# Altium schematic symbol library PCB_Project.SCHLIB: 15 symbols
Pins are listed as number, name and electrical type; pins without a type are passive.

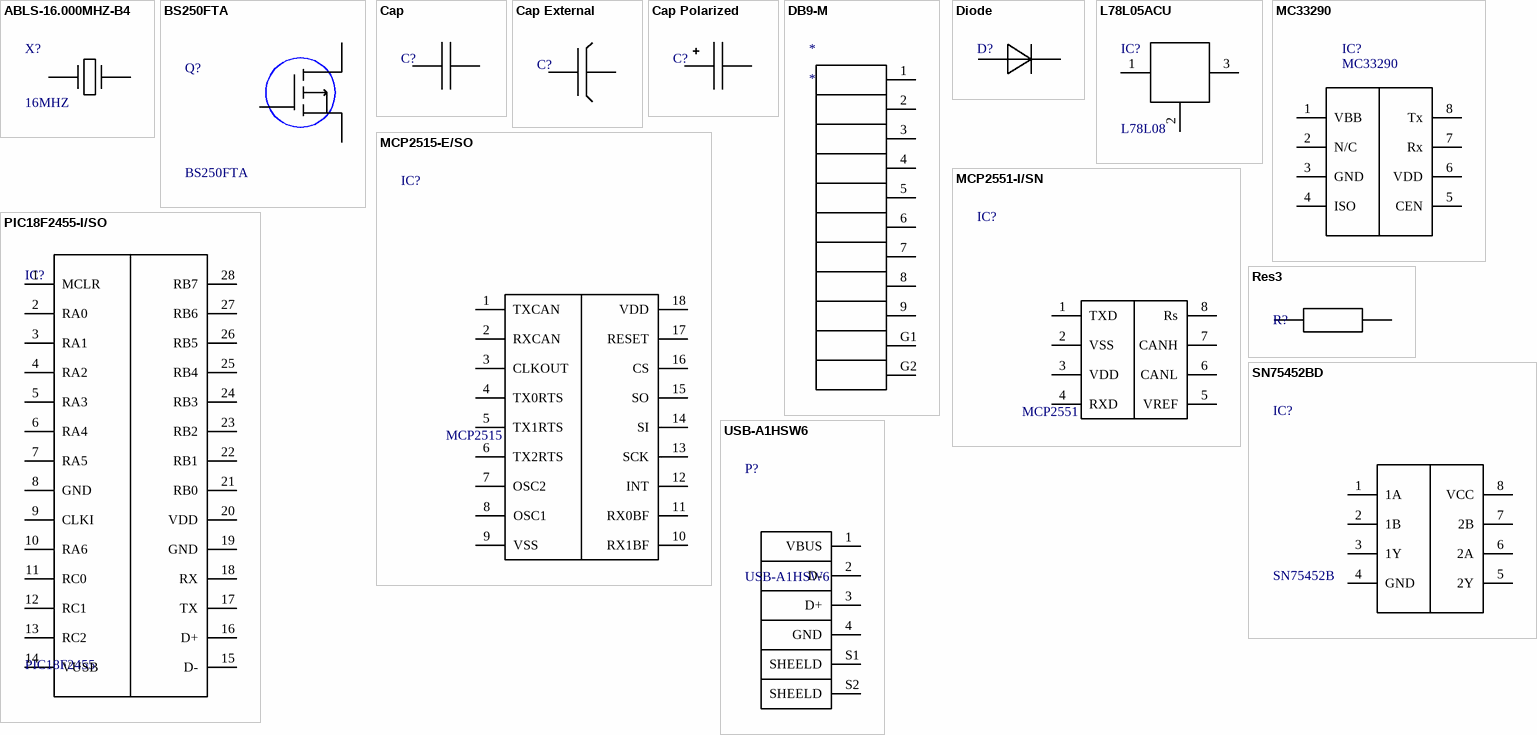
[diagram p0: symbols ABLS-16.000MHZ-B4 to USB-A1HSW6]

## ABLS-16.000MHZ-B4
designator X?, comment 16MHZ
16 MHz Â±30ppm Crystal 18pF 40 Ohms HC-49/US; MP: ABLS-16.000MHZ-B4; MF: Abracon; Check_prices: https://www.snapeda.com/parts/ABLS-16.000MHZ-B4/Abracon/view-part/?ref=eda; Availability: In Stock; SnapEDA_Link: https://www.snapeda.com/parts/ABLS-16.000MHZ-B4/Abracon/view-part/?ref=snap; Value: *; Price: None; Package: HC-49/US Abracon LLC; Purchase-URL: https://pricing.snapeda.com/search/part/ABLS-16.000MHZ-B4/?ref=eda
footprint X-16.000MHZ-B4
pins: 1, 2

## BS250FTA
designator Q?
P-Channel 45V 90mA (Ta) 330mW (Ta) Surface Mount SOT-23-3; MF: Diodes Inc.; DigiKey-Purchase-URL: https://snapeda.com/shop?store=DigiKey&id=699; SnapEDA_Link: https://www.snapeda.com/parts/BS250FTA/Diodes%20Inc./view-part/699/?ref=snap; Availability: Unavailable; Value: *; Price: None; MP: BS250FTA; Package: SOT-23-3 Diodes Inc.
footprint BS250
pins: 1 G, 2 S, 3 D

## Cap
designator C?  (value not drawn)
Capacitor; Published: 8-Jun-2000; LatestRevisionDate: 29-May-2009; LatestRevisionNote: IPC-7351 Footprint Added.; PackageReference: C0805; Publisher: Altium Limited; PackageDescription: Chip Capacitor
footprint C0805 (Chip Capacitor, Body 2.0x1.3mm, IPC High Density)
pins: 1, 2
1 alternate drawing of the same symbol

## Cap External
designator С?, comment Cap  (value not drawn)
Capacitor with a designated external electrode; Published: 8-Jun-2000; LatestRevisionDate: 29-May-2009; LatestRevisionNote: IPC-7351 Footprint Added.; PackageReference: C0805; Publisher: Altium Limited; PackageDescription: Chip Capacitor
footprint C0805 (Chip Capacitor, Body 2.0x1.3mm, IPC High Density)
pins: 1, 2
1 alternate drawing of the same symbol

## Cap Polarized
designator С?, comment Cap  (value not drawn)
Capacitor Polarized; Published: 8-Jun-2000; LatestRevisionDate: 29-May-2009; LatestRevisionNote: IPC-7351 Footprint Added.; PackageReference: C0805; Publisher: Altium Limited; PackageDescription: Chip Capacitor
footprint C0805 (Chip Capacitor, Body 2.0x1.3mm, IPC High Density)
pins: 1, 2
1 alternate drawing of the same symbol

## DB9-M
designator *
footprint DB9
pins: 1, 2, 3, 4, 5, 6, 7, 8, 9, G1, G2

## Diode
designator D?  (value not drawn)
Default Diode; Published: 8-Jun-2000; LatestRevisionDate: 17-Jul-2002; LatestRevisionNote: Re-released for DXP Platform.; PackageVersion: Sep-1996; PackageReference: SMC; Publisher: Altium Limited; PackageDescription: DO-214-AB/SMC; 2 C-Bend Leads; Body 7.9 x 5.9 mm, inc. leads (LxW); Code_JEDEC: DO-214-AB
footprint 1N4148
pins: 1, 2

## L78L05ACU
designator IC?, comment L78L08
Linear Voltage Regulator IC 1 Output 100mA SOT-89-3; MF: STMicroelectronics; MP: L78L05ACU; Availability: Unavailable; Price: None; Package: SOT-89-3 STMicroelectronics; Value: *; SnapEDA_Link: https://www.snapeda.com/parts/L78L05ACU/STMicroelectronics/view-part/1236826/?ref=snap
footprint L78L08
pins: 1 OUT (power), 2 GND (power), 3 IN (power)

## MC33290
designator IC?
Heat Sink; Packages Cooled:TO-220; Thermal Resistance:8.8Â°C/W; Width:34.5mm; Height:50mm; Length:12.5mm; Mounting Type:PC Board Thru Hole; Package / Case:TO-220 ;RoHS Compliant: Yes; MF: NXP USA; Check_prices: https://www.snapeda.com/parts/MC33290/NXP+USA+Inc./view-part/?ref=eda; Package: TO-220-3 ON Semiconductor; MP: MC33290; Value: *; SnapEDA_Link: https://www.snapeda.com/parts/MC33290/NXP+USA+Inc./view-part/?ref=snap; Availability: In Stock; Price: None
footprint SO08
pins: 1 VBB, 2 N/C, 3 GND (power), 4 ISO, 5 CEN, 6 VDD (power), 7 Rx, 8 Tx

## MCP2515-E/SO
designator IC?, comment MCP2515
CANbus Controller CAN 2.0 SPI Interface 18-SOIC; MP: MCP2515-E/SO; MF: Microchip; Price: None; Package: SOIC-18 Microchip; Availability: Unavailable; SnapEDA_Link: https://www.snapeda.com/parts/MCP2515-E/SO/Microchip/view-part/100602/?ref=snap; Value: *
footprint MCP2515
pins: 1 TXCAN, 2 RXCAN, 3 CLKOUT, 4 TX0RTS, 5 TX1RTS, 6 TX2RTS, 7 OSC2, 8 OSC1 (power), 9 VSS (power), 10 RX1BF, 11 RX0BF, 12 INT, 13 SCK, 14 SI, 15 SO, 16 CS, 17 RESET, 18 VDD

## MCP2551-I/SN
designator IC?, comment MCP2551
MP: MCP2551-I/SN; Package: None; Price: None; Availability: Unavailable; Value: *
footprint SOIC127P599X175-8N
pins: 1 TXD, 2 VSS (power), 3 VDD (power), 4 RXD, 5 VREF, 6 CANL, 7 CANH, 8 Rs

## PIC18F2455-I/SO
designator IC?, comment PIC18F2455
High Performance, Enhanced Flash, USB Microcontroller with nanoWatt Technology, 24K Flash, 28-Pin SOIC, Industrial Temperature Range; Published: 29-Jan-2009; LatestRevisionDate: 02-Dec-2009; LatestRevisionNote: Updated to datasheet revision E, Aug-2008; DatasheetVersion: revE, Aug-2008; PackageVersion: revBB, Aug-2009; PackageReference: SOIC-SO28; Publisher: Altium Limited; PackageDescription: 28-Lead Plastic Small Outline (SO) - Wide 7.50mm Body [SOIC]; Supplier 1: Digi-Key; Supplier Part Number 1: PIC18F2455-I/SO-ND; Supplier 2: Farnell; Supplier Part Number 2: 1579598; Code_JEDEC: MS-013; ComponentLink1Description: Datasheet; ComponentLink1URL: http://ww1.microchip.com/downloads/en/DeviceDoc/39632e.pdf; ComponentLink2Description: Packaging Specification; ComponentLink2URL: http://www.microchip.com/stellent/groups/techpub_sg/documents/packagingspec/en012702.pdf; ComponentLink3Description: Microchip.com Home; ComponentLink3URL: http://www.microchip.com/
footprint SOIC-SO28_N (SOIC, 28-Leads, Body 17.9x7.5mm, Pitch 1.27mm, IPC Medium Density)
footprint SOIC-SO28_L (SOIC, 28-Leads, Body 17.9x7.5mm, Pitch 1.27mm, IPC High Density)
footprint SOIC-SO28_M (SOIC, 28-Leads, Body 17.9x7.5mm, Pitch 1.27mm, IPC Low Density)
footprint SOIC-SO28_N (SOIC, 28-Leads, Body 17.9x7.5mm, Pitch 1.27mm, IPC Medium Density)
pins: 1 MCLR, 2 RA0, 3 RA1, 4 RA2, 5 RA3, 6 RA4, 7 RA5, 8 GND (power), 9 CLKI, 10 RA6, 11 RC0, 12 RC1, 13 RC2, 14 VUSB, 15 D-, 16 D+, 17 TX, 18 RX, 19 GND (power), 20 VDD (power), 21 RB0, 22 RB1, 23 RB2, 24 RB3, 25 RB4, 26 RB5, 27 RB6, 28 RB7

## Res3
designator R?  (value not drawn)
Resistor; Published: 8-Jun-2000; LatestRevisionDate: 29-May-2009; LatestRevisionNote: IPC-7351 Footprint Added.; PackageReference: J1-0603; Publisher: Altium Limited; PackageDescription: Chip Resistor
footprint J1-0603 (Chip Resistor, Body 1.6x0.8mm, IPC High Density)
pins: 1, 2

## SN75452BD
designator IC?, comment SN75452B
30-V Dual output driver with NAND logic inputs; MF: Texas Instruments; MP: SN75452BD; Purchase-URL: https://pricing.snapeda.com/search/part/SN75452BD/?ref=eda; Value: *; SnapEDA_Link: https://www.snapeda.com/parts/SN75452BD/Texas+Instruments/view-part/?ref=snap; Package: SOIC-8 Texas Instruments; Check_prices: https://www.snapeda.com/parts/SN75452BD/Texas+Instruments/view-part/?ref=eda; Price: None; Availability: In Stock
footprint SOIC127P599X175-8N
pins: 1 1A, 2 1B, 3 1Y, 4 GND (power), 5 2Y, 6 2A, 7 2B, 8 VCC (power)

## USB-A1HSW6
designator P?
USB - A Receptacle Connector 4 Position Through Hole, Right Angle; Price: None; Package: None; Availability: Unavailable; MP: USB-A1HSW6; Value: *
footprint USB-A1HSW6
pins: 1 VBUS, 2 D-, 3 D+, 4 GND (power), S1 SHEELD, S2 SHEELD